# Altium schematic symbol library 104CDMCCDS-100MC.SchLib: 1 symbol
Pins are listed as number, name and electrical type; pins without a type are passive.

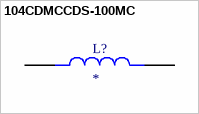
[diagram p0: symbol 104CDMCCDS-100MC]

## 104CDMCCDS-100MC
designator L?
Inductor Power Shielded/Molded Wirewound 10uH 20% 100KHz Metal 7.5A 0.03Ohm DCR 4040 T/R; MF: Sumida; MP: 104CDMCCDS-100MC; SnapEDA_Link: https://www.snapeda.com/parts/104CDMCCDS-100MC/Sumida/view-part/?ref=snap; Package: Nonstandard Sumida; Value: *; Check_prices: https://www.snapeda.com/parts/104CDMCCDS-100MC/Sumida/view-part/?ref=eda
footprint IND_104CDMCCDS-100MC
pins: 1, 2